# EAGLE library part PCA9534A (library 1)
PCA9534A Remote 8-BIT I2C and SMBus Low-Power I/O Expander With Interrupt Output And Configuration Registers
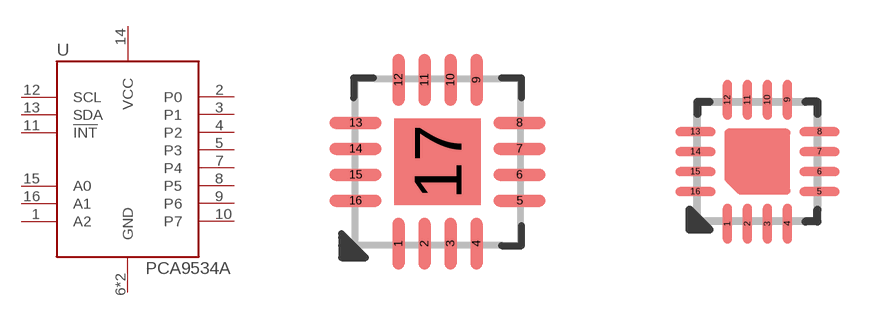
[diagram p50: symbol with the pads of QFN65_4X4MM-16; footprints QFN65_4X4MM-16, QFN50_3X3MM-16]

Designator prefix U

## PCA9534ARGV  [QFN65_4X4MM-16]
1  A2
2  P0
3  P1
4  P2
5  P3
6  GND
7  P4
8  P5
9  P6
10  P7
11  !INT
12  SCL
13  SDA
14  VCC
15  A0
16  A1
17  GND

## PCA9534ARGT  [QFN50_3X3MM-16]
1  A2
2  P0
3  P1
4  P2
5  P3
6  GND
7  P4
8  P5
9  P6
10  P7
11  !INT
12  SCL
13  SDA
14  VCC
15  A0
16  A1

## Footprint QFN65_4X4MM-16 (pad centres in mm)
smd 0.3 x 1.3: 1 -0.975,-2.05; 2 -0.325,-2.05; 3 0.325,-2.05; 4 0.975,-2.05; 9 0.975,2.05; 10 0.325,2.05; 11 -0.325,2.05; 12 -0.975,2.05
smd 1.3 x 0.3: 5 2.05,-0.975; 6 2.05,-0.325; 7 2.05,0.325; 8 2.05,0.975; 13 -2.05,0.975; 14 -2.05,0.325; 15 -2.05,-0.325; 16 -2.05,-0.975
smd 2.16 x 2.16: 17 0,0

## Footprint QFN50_3X3MM-16 (pad centres in mm)
0.5mm QFN-16 3x3mm
smd 0.23 x 1: 1 -0.75,-1.55; 2 -0.25,-1.55; 3 0.25,-1.55; 4 0.75,-1.55; 9 0.75,1.55; 10 0.25,1.55; 11 -0.25,1.55; 12 -0.75,1.55
smd 1 x 0.23: 5 1.55,-0.75; 6 1.55,-0.25; 7 1.55,0.25; 8 1.55,0.75; 13 -1.55,0.75; 14 -1.55,0.25; 15 -1.55,-0.25; 16 -1.55,-0.75